# Altium schematic symbol library Kojiki.SCHLIB: 47 symbols
Pins are listed as number, name and electrical type; pins without a type are passive.

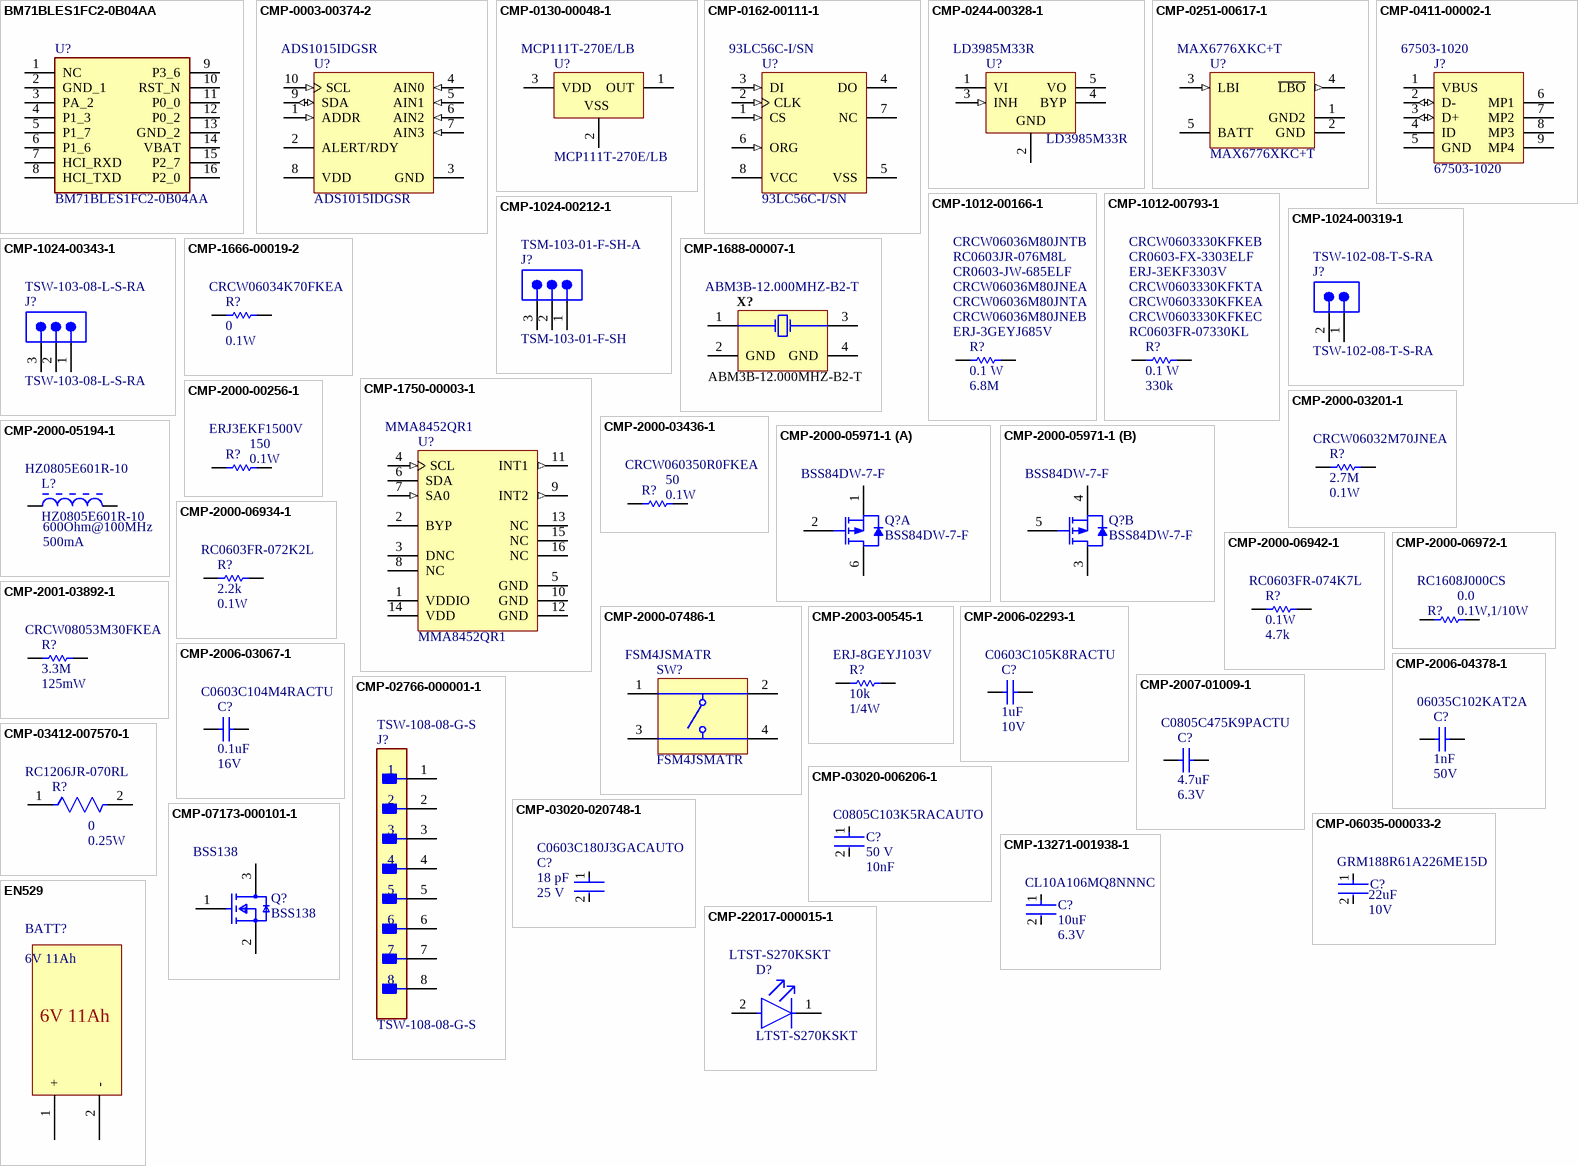
[diagram p0: symbols BM71BLES1FC2-0B04AA to EN529]

## BM71BLES1FC2-0B04AA
designator U?
Integrated Circuit; Manufacturer_Name: Microchip; Datasheet Link: http://www.microchip.com/mymicrochip/filehandler.aspx?ddocname=en578477; Manufacturer_Part_Number: BM71BLES1FC2-0B04AA; Arrow Part Number: BM71BLES1FC2-0B04AA; Arrow Price/Stock: https://www.arrow.com/en/products/bm71bles1fc2-0b04aa/microchip-technology; Mouser Part Number: 579-BM71BS1FC2-BB04; Mouser Price/Stock: https://www.mouser.co.uk/ProductDetail/Microchip-Technology/BM71BLES1FC2-0B04AA?qs=w%2Fv1CP2dgqqgFQsF1zIUBg%3D%3D
footprint BM71BLES1FC2_1
pins: 1 NC, 2 GND_1, 3 PA_2, 4 P1_3, 5 P1_7, 6 P1_6, 7 HCI_RXD, 8 HCI_TXD, 9 P3_6, 10 RST_N, 11 P0_0, 12 P0_2, 13 GND_2, 14 VBAT, 15 P2_7, 16 P2_0

## CMP-0003-00374-2
designator U?, comment ADS1015IDGSR
12-Bit ADC with Integrated Multiplexer, PGA, Comparator, Oscillator, and Reference, -40 to 125 degC, 10-pin SOP (DGS10), Green (RoHS & no Sb/Br); Manufacturer: Texas Instruments; # Input Channels: 4; Digital Supply(Max)(V): 5.5; Resolution(Bits): 12; Digital Supply(Min)(V): 2; Architecture: Delta-Sigma; Sample Rate (max)(SPS): 3.3k; SubFamily: Precision ADC (<=10MSPS); INL(Max)(+/-LSB): 0.5; Interface: Serial I2C; ComponentLink1Description: Manufacturer URL; PartNumber: ADS1015IDGSR; PackageDescription: 10-Pin Plastic Small Outline, Body 3 x 3 mm, Pitch 0.5 mm; PackageVersion: 4073272/C, 02/2004; ComponentLink3URL: http://www.ti.com/lit/ml/mpds035b/mpds035b.pdf; Eco-Plan: Green (RoHS & no Sb/Br); ComponentLink2URL: http://www.ti.com/general/docs/lit/getliterature.tsp?genericPartNumber=ADS1015&fileType=pdf; Mounting Technology: Surface Mount; ComponentLink1URL: http://www.ti.com/; DatasheetVersion: SBAS473C; Analog Voltage AV/DD(Min)(V): 2; ComponentLink2Description: Datasheet; Code_JEDEC: MO-153; Analog Voltage AV/DD(Max)(V): 5.5; PackageReference: DGS10; ComponentLink3Description: Package Specification; Manufacturer Part Number: ADS1015IDGSR
footprint TI-DGS10_N (SOP, 10-Leads, Body 3x3mm, Pitch 0.5mm, IPC Medium Density)
footprint TI-DGS10_L (SOP, 10-Leads, Body 3x3mm, Pitch 0.5mm, IPC High Density)
footprint TI-DGS10_M (SOP, 10-Leads, Body 3x3mm, Pitch 0.5mm, IPC Low Density)
pins: 1 ADDR (in) "I2C slave address select", 2 ALERT/RDY (oc) "Digital comparator output or conversion ready", 3 GND (power) "Ground", 4 AIN0 (in) "Differential channel 1: Positive input or single-ended channel 1 input", 5 AIN1 (in) "Differential channel 1: Negative input or single-ended channel 2 input", 6 AIN2 (in) "Differential channel 2: Positive input or single-ended channel 3 input", 7 AIN3 (in) "Differential channel 2: Negative input or single-ended channel 4 input", 8 VDD (power) "Power supply: 2.0V to 5.5V", 9 SDA (io) "Serial data: Transmits and receives data", 10 SCL (in) "Serial clock input: Clocks data on SDA"

## CMP-0130-00048-1
designator U?, comment MCP111T-270E/LB
1.75Î¼A Micropower Voltage Detector, Open-Drain Output, 2.63V, 3-Pin SC-70, Extended Temperature, Tape and Reel; Manufacturer: Microchip; PackageVersion: revBB, Aug-2009; PackageReference: SC70-LB3; DatasheetVersion: revD, Jun-2005; PackageDescription: 3-Lead Plastic Small Outline Transistor (LB) [SC70]; Manufacturer Part Number: MCP111T-270E/LB
footprint SC70-LB3_N (SOT323, 3-Leads, Body 2.0x1.3mm, Pitch 0.65mm, Lead Span 2.1mm, IPC Medium Density)
footprint SC70-LB3_M (SOT323, 3-Leads, Body 2.0x1.3mm, Pitch 0.65mm, Lead Span 2.1mm, IPC Low Density)
footprint SC70-LB3_L (SOT323, 3-Leads, Body 2.0x1.3mm, Pitch 0.65mm, Lead Span 2.1mm, IPC High Density)
pins: 1 OUT (power), 2 VSS (power), 3 VDD (power)

## CMP-0162-00111-1
designator U?, comment 93LC56C-I/SN
2K, 256x8 or 128x16-bit, 2.5V Microwire Serial EEPROM, 8-Pin SOIC 150mil, Industrial Temperature; Manufacturer: Microchip; ComponentAvailability: Unknown. Contact manufacturer to determine status.; PackageReference: SOIC-SN8; PackageVersion: revBB, Aug-2009; Code_IPC: SOIC127P600-8; PackageDescription: 8-Lead Plastic Small Outline (SN) - Narrow, 3.90mm Body [SOIC]; DatasheetVersion: revF, May-2008; Code_JEDEC: MS-012; Manufacturer Part Number: 93LC56C-I/SN
footprint SOIC-SN8_L (SOIC, 8-Leads, Body 4.9x3.8mm, Pitch 1.27mm, IPC High Density)
footprint SOIC-SN8_N (SOIC, 8-Leads, Body 4.9x3.8mm, Pitch 1.27mm, IPC Medium Density)
footprint SOIC-SN8_M (SOIC, 8-Leads, Body 4.9x3.8mm, Pitch 1.27mm, IPC Low Density)
pins: 1 CS (in), 2 CLK (in), 3 DI (in), 4 DO (hiz), 5 VSS (power), 6 ORG (in), 7 NC, 8 VCC (power)

## CMP-0244-00328-1
designator U?, comment LD3985M33R
150mA, Ultra-Low Drop Low Noise BiCMOS Voltage Regulators Low ESR Capacitors Compatible, 3.3V, 5-Pin SOT23-5L; Manufacturer: STMicroelectronics; ComponentLink1Description: Manufacturer URL; ComponentLink2URL: http://www.st.com/internet/com/TECHNICAL_RESOURCES/TECHNICAL_LITERATURE/DATASHEET/CD00003395.pdf; PackageReference: SOT23-5L; ComponentLink1URL: http://www.st.com; ComponentLink2Description: Datasheet; PackageVersion: 1/01/2008; PackageDescription: 5-Pin SOT-23 Package, 2.9 x 1.6 mm Body, 0.95 mm Pitch, 2.8 mm Lead Span; DatasheetVersion: 3/01/2011; Manufacturer Part Number: LD3985M33R
footprint SOT23-5L_N (SOT23, 5-Leads, Body 2.9x1.6mm, Pitch 0.95mm, Lead Span 2.8mm, IPC Medium Density)
footprint SOT23-5L_M (SOT23, 5-Leads, Body 2.9x1.6mm, Pitch 0.95mm, Lead Span 2.8mm, IPC Low Density)
footprint SOT23-5L_L (SOT23, 5-Leads, Body 2.9x1.6mm, Pitch 0.95mm, Lead Span 2.8mm, IPC High Density)
pins: 1 VI (power), 2 GND (power), 3 INH (in), 4 BYP, 5 VO (power)

## CMP-0251-00617-1
designator U?, comment MAX6776XKC+T
Low-Power, 1%-Accurate Battery Monitor, Single LBO output, Open-Drain output, Fixed hysteresis, 5-Pin SC70, -40°C to +85°C, Pb-Free, Tape and Reel; Manufacturer: Maxim; PackageVersion: revE, 2006; PackageDescription: 5-Pin SC70 Transistor Package, 0.65 mm Pitch, 2.2 mm Lead Span; ComponentLink1URL: http://www.maxim-ic.com; ComponentLink2URL: http://datasheets.maxim-ic.com/en/ds/MAX6775-MAX6781.pdf; ComponentLink2Description: Datasheet; ComponentLink3URL: http://pdfserv.maxim-ic.com/package_dwgs/21-0076.PDF; ComponentLink1Description: Manufacturer URL; ComponentLink3Description: Package Specification; PackageReference: X5+1; DatasheetVersion: Rev 4, May-2009; Code_JEDEC: MO-203; Manufacturer Part Number: MAX6776XKC+T
footprint X5+1_N (SOT353, 5-Leads, Body 2x1.3mm, Pitch 0.65mm, Lead Span 2.1mm, IPC Medium Density)
footprint X5+1_M (SOT353, 5-Leads, Body 2x1.3mm, Pitch 0.65mm, Lead Span 2.1mm, IPC Low Density)
footprint X5+1_L (SOT353, 5-Leads, Body 2x1.3mm, Pitch 0.65mm, Lead Span 2.1mm, IPC High Density)
pins: 1 GND2 (power), 2 GND (power), 3 LBI (in), 4 ~{LBO} (out), 5 BATT (power)

## CMP-0411-00002-1
designator J?, comment 67503-1020
USB, MINI, SMD, RA KME04-USBMU03A01; Manufacturer: Molex; ComponentLink1URL: http://www.molex.com/; Part Number: 67503-1020; Mounting Technology: Surface Mount; ComponentLink1Description: Manufacturer URL; Terminal Pitch: 0.8 mm; DatasheetVersion: Rev F, 06/2009; ComponentLink2Description: Datasheet; PackageDescription: Mini USB Connector, SMT, Righer Angle; ComponentLink2URL: http://www.molex.com/pdm_docs/sd/675031020_sd.pdf; PackageReference: 67503-1020; Manufacturer Part Number: 67503-1020
footprint MOLX-67503-1020_V (Mini USB Connector, SMT, Righer Angle)
pins: 1 VBUS (power), 2 D- (io), 3 D+ (io), 4 ID, 5 GND (power), 6 MP1, 7 MP2, 8 MP3, 9 MP4

## CMP-1012-00166-1
designator R?, comment value 6.8M  Power: 0.1 W  Manufacturer Part Number: ERJ-3GEYJ685V  Manufacturer Part Number: CRCW06036M80JNEB  Manufacturer Part Number: CRCW06036M80JNTA  Manufacturer Part Number: CRCW06036M80JNEA  Manufacturer Part Number: CR0603-JW-685ELF  Manufacturer Part Number: RC0603JR-076M8L  Manufacturer Part Number: CRCW06036M80JNTB  (hidden comment: 6M8 5% 0603(1608))
6M8 0.1W 5% 0603 (1608 Metric)  SMD; Manufacturer: Panasonic; Manufacturer: Vishay; Manufacturer: Vishay Dale; Manufacturer: Bourns; Manufacturer: Yageo; Alternative2: RMCF0603JT6M80 Stackpole Electronics; Alternative3: CRCW06036M80JNEA Vishay Dale; Package / Case: 0603; Tolerance: 5 %; Part Number: ERJ-3GEYJ685V; Alternative1: CR0603-JW-685ELF
footprint RESC0603(1608)_L (Chip Resistor, Body 1.6x0.8mm, IPC High Density)
footprint RESC0603(1608)_N (Chip Resistor, Body 1.6x0.8mm, IPC Medium Density)
footprint RESC0603(1608)_M (Chip Resistor, Body 1.6x0.8mm, IPC Low Density)
pins: 1, 2
1 alternate drawing of the same symbol

## CMP-1012-00793-1
designator R?, comment value 330k  Power: 0.1 W  Manufacturer Part Number: RC0603FR-07330KL  Manufacturer Part Number: CRCW0603330KFKEC  Manufacturer Part Number: CRCW0603330KFKEA  Manufacturer Part Number: CRCW0603330KFKTA  Manufacturer Part Number: ERJ-3EKF3303V  Manufacturer Part Number: CR0603-FX-3303ELF  Manufacturer Part Number: CRCW0603330KFKEB  (hidden comment: 330K 1% 0603(1608))
330K 0.1W 1% 0603 (1608 Metric)  SMD; Manufacturer: Yageo; Manufacturer: Vishay; Manufacturer: Vishay Dale; Manufacturer: Panasonic; Manufacturer: Bourns; Manufacturer: Vishay Intertechnology; Case-EIA: 0603; Case-Metric: 1608; Technology: SMT; Tolerance: 1 %
footprint RESC0603(1608)_M (Chip Resistor, Body 1.6x0.8mm, IPC Low Density)
footprint RESC0603(1608)_N (Chip Resistor, Body 1.6x0.8mm, IPC Medium Density)
footprint RESC0603(1608)_L (Chip Resistor, Body 1.6x0.8mm, IPC High Density)
pins: 1, 2
1 alternate drawing of the same symbol

## CMP-1024-00212-1
designator J?, comment Manufacturer Part Number: TSM-103-01-F-SH-A  (hidden comment: TSM-103-01-F-SH)
0.025" SQ Post Header, Surface Mount, Horizontal, -55 to 125 degC, 2.54 mm Pitch, 3-Pin, Male, RoHS; Manufacturer: Samtec; Pitch: 2.54 mm; ComponentLink1Description: Manufacturer URL; Temperature Range: -55 to 125 degC; Part Number: TSM-103-01-F-SH; Orientation: Horizontal; ComponentLink1URL: http://www.samtec.com; ComponentLink2Description: Datasheet; Mounting Technology: Surface Mount; RoHS: True; ComponentLink3URL: http://www.samtec.com/documents/webfiles/cpdf/TSM-1XX-XX-XXX-SH-XX-XXX-XX-MKT1.pdf; ComponentLink3Description: Package Specification; ComponentLink2URL: http://www.samtec.com/documents/webfiles/pdf/TSM.PDF
footprint SMTC-TSM-103-01-X-SH-A (Terminal Strip Single Surface Mount, 1x3 Pins, Horizontal, 2.54mm Pitch, Male)
pins: 1, 2, 3

## CMP-1024-00319-1
designator J?, comment TSW-102-08-T-S-RA
0.025" SQ Post Header, Through-hole, Right Angle, -55 to 105 degC, 2.54 mm Pitch, 2-Pin, Male, RoHS; Manufacturer: Samtec; Pitch: 2.54 mm; ComponentLink1Description: Manufacturer URL; ComponentLink1URL: http://www.samtec.com; ComponentLink2Description: Datasheet; ComponentLink2URL: http://www.samtec.com/documents/webfiles/pdf/TSW_TH.PDF; Mounting Technology: Through-hole; Temperature Range: -55 to 105 degC; PackageDescription: .025[0.64] SQ. Post Terminal Strip Assembly; PackageVersion: DM, 8/1988; PartNumber: TSW-102-08-T-S-RA; Orientation: Right Angle; ComponentLink3URL: http://www.samtec.com/documents/webfiles/cpdf/TSW-XXX-XX-XXX-X-XX-XXX-MKT.pdf; RoHS: True; ComponentLink3Description: Package Specification; DatasheetVersion: F-214; PackageReference: TSW-102-08-X-S-RA; Manufacturer Part Number: TSW-102-08-T-S-RA
footprint SMTC-TSW-102-08-X-S-RA (.025 SQ Post Terminal Strip Assembly, 1x2 Pins, Right Angle, 2.54mm Pitch, Male)
pins: 1, 2

## CMP-1024-00343-1
designator J?, comment TSW-103-08-L-S-RA
0.025" SQ Post Header, Through-hole, Right Angle, -55 to 125 degC, 2.54 mm Pitch, 3-Pin, Male, RoHS; Manufacturer: Samtec; Pitch: 2.54 mm; ComponentLink2Description: Datasheet; Temperature Range: -55 to 125 degC; ComponentLink1Description: Manufacturer URL; Mounting Technology: Through-hole; ComponentLink3URL: http://www.samtec.com/documents/webfiles/cpdf/TSW-XXX-XX-XXX-X-XX-XXX-MKT.pdf; DatasheetVersion: F-214; PackageDescription: .025[0.64] SQ. Post Terminal Strip Assembly; PackageVersion: DM, 8/1988; Orientation: Right Angle; PackageReference: TSW-103-08-X-S-RA; ComponentLink1URL: http://www.samtec.com; ComponentLink3Description: Package Specification; PartNumber: TSW-103-08-L-S-RA; RoHS: True; ComponentLink2URL: http://www.samtec.com/documents/webfiles/pdf/TSW_TH.PDF; Manufacturer Part Number: TSW-103-08-L-S-RA
footprint SMTC-TSW-103-08-X-S-RA (.025 SQ Post Terminal Strip Assembly, 1x3 Pins, Right Angle, 2.54mm Pitch, Male)
pins: 1, 2, 3

## CMP-1666-00019-2
designator R?, comment value 0  Power: 0.1W  (hidden comment: CRCW06034K70FKEA)
Chip Resistor, 4.7 KOhm, +/- 1%, 100 mW, -55 to 155 degC, 0603 (1608 Metric), RoHS, Tape and Reel; Manufacturer: Vishay; Alternative 1: RC0603FR-134K7L Yageo; Alternative 2: WR06X4701FGL Walsin Technologies; Alternative 3: CRCW06031R50FNEA Vishay Dale; ComponentLink1Description: Manufacturer URL; RoHSCompliant: true; ComponentLink2URL: http://www.vishay.com/docs/20035/dcrcwe3.pdf; Package / Case: 0603; ComponentLink2Description: Datasheet; ComponentLink1URL: http://www.vishay.com/; Part Number: CRCW06034K70FKEA; Manufacturer Part Number: CRCW06034K70FKEA
footprint RESC1609X50X30LL8T20 (Chip Resistor, 2-Leads, Body 1.65x0.95mm, IPC High Density)
footprint RESC1609X50X30NL8T20 (Chip Resistor, 2-Leads, Body 1.65x0.95mm, IPC Medium Density)
footprint RESC1609X50X30ML8T20 (Chip Resistor, 2-Leads, Body 1.65x0.95mm, IPC Low Density)
pins: 1, 2

## CMP-1688-00007-1
designator X?, comment ABM3B-12.000MHZ-B2-T
Ceramic SMD Crystal, 12 MHz, +/- 20 ppm, 70 Ohm, -20 to 70 degC, 4-Pin SMD, RoHS, Tape and Reel; Manufacturer: Abracon; Max Input Voltage: 25 V; Dropout Voltage: 2 V; Max Ouput Current: 1.5 A; Nominal Output Voltage: 5 V; Min Input Voltage: 7 V; Package / Case: TO-263-4; Mount: Surface Mount; ComponentLink2Description: Datasheet; DatasheetVersion: Aug-15; PackageReference: ABM3B; Radiation Hardening: No; Weight: 0.050897 oz; ComponentLink1URL: http://www.abracon.com/; RoHSCompliant: true; Max Operating Temperature: 125 degC; PackageDescription: 4-Pin Surface Mount Device, Body 5 x 3.2 mm; ComponentLink1Description: Manufacturer URL; Package Quantity: 500; Output Voltage: 5 V; ComponentLink2URL: http://www.abracon.com/Resonators/abm3b.pdf; Min Operating Temperature: 0 degC; Output Current: 1.5 A; Packaging: Tape and Reel; Pins: 3; REACH SVHC: No SVHC; Part Number: ABM3B-12.000MHZ-B2-T; Manufacturer Part Number: ABM3B-12.000MHZ-B2-T
footprint ABRA-ABM3B-4_V (SMD, 4-Leads, Body 5x3.2mm)
pins: 1 X1, 2 GND (power), 3 X2, 4 GND (power)

## CMP-1750-00003-1
designator U?, comment MMA8452QR1
3-Axis, 12-Bit / 8-Bit Digital Acceleromete, 1.95 to 3.6 V, -40 to 85 degC, 16-Pin QFN, RoHS, Tape and Reel; Manufacturer: NXP Freescale; Elements: 1; Nominal Vgs: -3.5 V; Typical Rise Time: 8 ns; Nominal Dual Supply Voltage: -60 V; Rds On Max: 14 Ohm; Input Capacitance: 50 pF; Case\Package: TO-226-3; Max Power Dissipation: 625 mW; ComponentLink1URL: http://www.nxp.com/; ComponentLink2URL: http://cache.nxp.com/files/sensors/doc/data_sheet/MMA8452Q.pdf; ComponentLink2Description: Datasheet; Length: 4.77 mm; ComponentLink1Description: Manufacturer URL; Mount: Through Hole; REACH SVHC: No SVHC; Packaging: Bulk; PackageReference: QFN-16; Max Operating Temperature: 150 degC; Min Operating Temperature: -55 degC; Height: 4.01 mm; Pins: 3; Radiation Hardening: No; Weight: 0.016 oz; RoHSCompliant: true; Width: 2.41 mm; Package Quantity: 4000; PackageDescription: 16-Pin Quad Flat No-lead Package, Body 3 x 3 mm , Pitch 0.5 mm; DatasheetVersion: Rev. 10, 04/2016; Manufacturer Part Number: MMA8452QR1
footprint FREE-QFN-16_V (QFN, 16-Leads, Body 3x3mm, Pitch 0.5mm)
pins: 1 VDDIO (power) "Internal power supply (1.62 V to 3.6 V)", 2 BYP "Bypass capacitor (0.1 uF)", 3 DNC "Do not connect to anything, leave pin isolated and floating.", 4 SCL (in) "I2C serial clock, open drain", 5 GND (power) "Connect to ground", 6 SDA "I2C serial data", 7 SA0 (in) "I2C least significant bit of the device I2C address, I2C 7-bit address = 0x1C (SA0 = 0), 0x1D (SA0 = 1).", 8 NC "Internally not connected", 9 INT2 (out) "Inertial interrupt 2, output pin", 10 GND (power) "Connect to ground", 11 INT1 (out) "Inertial interrupt 1, output pin", 12 GND (power) "Connect to ground", 13 NC "Internally not connected", 14 VDD (power) "Power supply (1.95 V to 3.6 V)", 15 NC "Internally not connected", 16 NC "Internally not connected (can be GND or VDD)"

## CMP-2000-00256-1
designator R?, comment value 150  Power: 0.1W  Manufacturer Part Number: ERJ3EKF1500V  (hidden comment: ERJ-3EKF1500V)
Manufacturer: Panasonic; Part Number: ERJ-3EKF1500V
footprint RESC1608X55X30NL15T15 (Chip Resistor, 2-Leads, Body 1.60x0.80mm, IPC Medium Density)
footprint RESC1608X55X30ML15T15 (Chip Resistor, 2-Leads, Body 1.60x0.80mm, IPC Low Density)
footprint RESC1608X55X30LL15T15 (Chip Resistor, 2-Leads, Body 1.60x0.80mm, IPC High Density)
pins: 1, 2
1 alternate drawing of the same symbol

## CMP-2000-03201-1
designator R?, comment value 2.7M  Power: 0.1W  (hidden comment: CRCW06032M70JNEA)
Manufacturer: Vishay Dale; Part Number: CRCW06032M70JNEA; Manufacturer Part Number: CRCW06032M70JNEA
footprint RESC1609X50X30ML10T20 (Chip Resistor, 2-Leads, Body 1.55x0.85mm, IPC Low Density)
footprint RESC1609X50X30NL10T20 (Chip Resistor, 2-Leads, Body 1.55x0.85mm, IPC Medium Density)
footprint RESC1609X50X30LL10T20 (Chip Resistor, 2-Leads, Body 1.55x0.85mm, IPC High Density)
pins: 1, 2
1 alternate drawing of the same symbol

## CMP-2000-03436-1
designator R?, comment value 50  Power: 0.1W  (hidden comment: CRCW060350R0FKEA)
Manufacturer: Vishay Dale; Part Number: CRCW060350R0FKEA; Manufacturer Part Number: CRCW060350R0FKEA
footprint RESC1609X50X30NL10T20 (Chip Resistor, 2-Leads, Body 1.55x0.85mm, IPC Medium Density)
footprint RESC1609X50X30LL10T20 (Chip Resistor, 2-Leads, Body 1.55x0.85mm, IPC High Density)
footprint RESC1609X50X30ML10T20 (Chip Resistor, 2-Leads, Body 1.55x0.85mm, IPC Low Density)
pins: 1, 2
1 alternate drawing of the same symbol

## CMP-2000-05194-1
designator L?, comment HZ0805E601R-10  Impedance @ Frequency: 600Ohm@100MHz  Current Rating (Max): 500mA
Chip Bead for Signal Filtering, 600 Ohm, 500 mA, -40 to 125 degC, 0805 (2012 Metric), RoHS, Tape and Reel; Manufacturer: Laird; Other Names: 240-2399-1; Kits: 240-2227-ND-KITEMIFERRITEBEADCHIPSMD; DC Resistance (DCR) (Max): 300mOhm; Filter Type: SignalLine; Operating Temperature: -40degC~125degC; Datasheet URL: https://datasheet.ciiva.com/22622/1685710-22622833.pdf; Mounting Type: SurfaceMount; Package / Case: 0805(2012Metric); Package Description: 2-Pin Surface Mount Device, Body 2 x 1.25 mm; Package Reference: LI0805H15R-10-2; Size / Dimension: 0.079"Lx0.049"W(2.00mmx1.25mm); Height (Max): 0.043"(1.10mm); Part Number: HZ0805E601R-10; Manufacturer Part Number: HZ0805E601R-10
footprint LIRD-LI0805H151R-10-2_V (Chip, 2-Leads, Body 2.2x1.45mm)
pins: 1, 2

## CMP-2000-05971-1
designator Q?, comment BSS84DW-7-F
Dual P-Channel Enhancement Mode MOSFET, 50 VDS, -55 to 150 degC, 6-Pin SOT363, RoHS, Tape and Reel; Manufacturer: DiodesIncorporated; Manufacturer: Diodes; Vgs - Gate-Source Voltage: 20V; Typical Turn-On Delay Time: 10ns; Forward Transconductance - Min: 0.05S; Id - Continuous Drain Current: -130mA; Transistor Type: 2P-Channel; Typical Turn-Off Delay Time: 18ns; Unit Weight: 0.000212oz; Vds - Drain-Source Breakdown Voltage: -50V; Number of Channels: 2Channel; Pd - Power Dissipation: 300mW; Type: EnhancementModeFieldEffectTransistor; Rds On - Drain-Source Resistance: 6Ohms; Package Description: 6-Pin Small Outline Transistor, Body 1.25 x 2 mm, Pitch 0.65 mm; RoHS: True; Manufacturer URL: http://www.diodes.com/; Packaging: Reel; Series: BSS84; Mounting Style: SMD/SMT; Technology: Si; Height: 1mm; Configuration: Dual; Package Reference: SOT363-6; Length: 2.2mm; Mounting Technology: SurfaceMount; Factory Pack Quantity: 3000; Brand: DiodesIncorporated; Maximum Operating Temperature: +150C; Minimum Operating Temperature: -55C; Product Category: MOSFET; Datasheet URL: http://www.diodes.com/_files/datasheets/ds30204.pdf; Width: 1.35mm; Product: MOSFETSmallSignal; Channel Mode: Enhancement; Transistor Polarity: P-Channel; Datasheet Version: Rev. 18-2, 01/2014; Package / Case: SOT-363-6; Manufacturer Part Number: BSS84DW-7-F
footprint DIOD-SOT363-6_V (SOT23, 6-Leads, Body 1.35x2.20mm, Pitch 0.65mm)
part A pins: 1 S, 2 G, 6 D
part B pins: 3 D, 4 S, 5 G

## CMP-2000-06934-1
designator R?, comment value 2.2k  Power: 0.1W  (hidden comment: RC0603FR-072K2L)
Thick Film Resistor, 2.2 KOhm, 100 mW, 50 V, +/- 1%, -55 to 155 degC, 2-Pin SMD (0603), RoHS, Tape and Reel; Manufacturer: Yageo; Temperature Coefficient: 100PPM/C; Voltage: 50V; Alternative1: RC0603FR-102K2L Yageo; Alternative2: RMCF0603FT2K20 Stackpole Electronics; Alternative3: CRCW06032K20FKEA Vishay; Tolerance: 1%; Datasheet Version: Rev. 7, 05/2017; Case Code - mm: 1608; Series: RC; Mounting Technology: SurfaceMount; Package Description: 2-Pin Surface Mount Device, Body 1.6 x 0.8 mm; Package / Case: 0603; Package Reference: 0603; Product: ThickFilmResistorsGeneralPurpose; Manufacturer URL: http://www.yageo.com/; Termination Style: SMD/SMT; Operating Temperature Range: -55Cto+155C; Datasheet URL: http://www.yageo.com/documents/recent/PYu-RC_Group_51_RoHS_L_7.pdf; Packaging: Reel; Manufacturer Part Number: RC0603FR-072K2L
footprint RESC1608X55X25LL10T15 (Chip Resistor, 2-Leads, Body 1.60x0.80mm, IPC High Density)
footprint RESC1608X55X25ML10T15 (Chip Resistor, 2-Leads, Body 1.70x0.90mm, IPC Low Density)
footprint RESC1608X55X25NL10T15 (Chip Resistor, 2-Leads, Body 1.70x0.90mm, IPC Medium Density)
pins: 1, 2

## CMP-2000-06942-1
designator R?, comment value 4.7k  Power: 0.1W  (hidden comment: RC0603FR-074K7L)
Chip Resistor, 4.7 KOhm, +/- 1%, 0.1 W, -55 to 155 degC, 0603 (1608 Metric), RoHS, Tape and Reel; Manufacturer: Yageo; Temperature Coefficient: 100PPM/C; Voltage Rating: 50V; Package / Case: 0603; Series: RC; Datasheet URL: http://www.yageo.com/documents/recent/PYu-RC_Group_51_RoHS_L_7.pdf; Case Code - mm: 1608; Operating Temperature Range: -55Cto+155C; Tolerance: 1%; Manufacturer Part Number: RC0603FR-074K7L
footprint RESC1608X55X25LL10T15 (Chip Resistor, 2-Leads, Body 1.60x0.80mm, IPC High Density)
footprint RESC1608X55X25ML10T15 (Chip Resistor, 2-Leads, Body 1.70x0.90mm, IPC Low Density)
footprint RESC1608X55X25NL10T15 (Chip Resistor, 2-Leads, Body 1.70x0.90mm, IPC Medium Density)
pins: 1, 2

## CMP-2000-06972-1
designator R?, comment value 0.0  Power: 0.1W,1/10W  (hidden comment: RC1608J000CS)
Chip Resistor, 0 Ohm, +/- 5%, 0.1 W, -55 to 155 degC, 0603 (1608 Metric), RoHS, Tape and Reel; Manufacturer: Samsung-Electro-Mechanics-America,-Inc.; Manufacturer: Samsung; Tolerance: Jumper; Alternative1: RC0603JR-130RL Yageo; Alternative2: RC0603JR-100RL Yageo; Alternative3: CRCW0603-0000Z0EA Vishay; Manufacturer URL: http://www.samsungsem.com/global/index.jsp; Features: MoistureResistant; Mounting Technology: SurfaceMount; Series: RC; Package / Case: 0603(1608Metric); Category: Resistors; Operating Temperature: -55°C~155°C; Datasheet URL: http://static6.arrow.com/aropdfconversion/3cece72dd289ffbadc164fbcd05f638dd7240f7b/rc_datasheet_150330.pdf.pdf?authToken=eyJ0eXAiOiJKV1QiLCJhbGciOiJIUzI1NiJ9.eyJTZXNzaW9uSWQiOiJtY3ZlYXdxYmptZXdpdXdyeG1ha2FxdWciLCJEb3dubG9hZFR5cGUiOiJEYXRhc2hlZXRzIiwiaXNzIjoic2VsZiIsImF1ZCI6Imh0dHA6Ly9kYXRhc2hlZXRhdXRoLmFycm93LmNvbSIsImV4cCI6MTQ3Njg1OTQ5NiwibmJmIjoxNDc2ODU5Mzc2fQ.1rZWSrRNyHkP6J5YmszFzS2kzmlbN9BKNvWJ4ACiP-Q; Datasheet Version: 09/2015; Composition: ThickFilm; Package Description: 2-Pin Chip Resistor, Body 1.6 x 0.8 mm; Height: 0.022"(0.55mm); Family: ChipResistor-SurfaceMount; Temperature Coefficient: -; Size / Dimension: 0.063"Lx0.031"W(1.60mmx0.80mm); Part Number: RC1608J000CS; Manufacturer Part Number: RC1608J000CS
footprint RESC1608X55X35LL10T10 (Chip Resistor, 2-Leads, Body 1.7x0.9mm, IPC High Density)
footprint RESC1608X55X35ML10T10 (Chip Resistor, 2-Leads, Body 1.7x0.9mm, IPC Low Density)
footprint RESC1608X55X35NL10T10 (Chip Resistor, 2-Leads, Body 1.7x0.9mm, IPC Medium Density)
pins: 1, 2

## CMP-2000-07486-1
designator SW?, comment FSM4JSMATR
Micro Miniature Push Button Switch FSM JSM, 50 mA, -35 to 85 degC, 4-Pin SMD, RoHS, Tape and Reel; Manufacturer: TE Connectivity; Manufacturer: TE Connectivity Alcoswitch; Mechanical Life: 100000Cycles; Current Rating: 50mA; Actuator Material: Polyamide; Max Voltage Rating (DC): 12V; Capacitance: 0f; Illumination Type: Illuminated; Voltage Rating (DC): 24V; Case\/Package: SMD/SMT; Operating Force: 160gf; Contact Resistance: 100mOhm; Actuator Length: 0.055inch; Switch Travel: 0.25mm; Throw Configuration: SPST; Termination: GullWing; Contact Plating: Silver; Orientation: Straight; Mounting Technology: SurfaceMount; REACH SVHC: Unknown; Electrical Life: 100000Cycles; Package Reference: FSM4JSMATR; Max Operating Temperature: 85degC; Manufacturer URL: http://www.te.com/; Package Description: 4-Pin Surface Mount Device, Body 6 x 6 mm, Pitch 4.5 mm; Datasheet Version: Rev. V, 02/2015; Packaging: TapeandReel; Min Operating Temperature: -35degC; Mount: SurfaceMount; Contact Current Rating: 50mA; Contact Material: CopperAlloy; Package Quantity: 1200; Datasheet URL: http://www.te.com/commerce/DocumentDelivery/DDEController?Action=showdoc&DocId=Customer+Drawing%7F2-1437565-7%7FV%7Fpdf%7FEnglish%7FENG_CD_2-1437565-7_V.pdf%7F4-1437565-2; RoHSCompliant: true; Manufacturer Part Number: FSM4JSMATR
footprint TECO-FSM4JSMATR_V (SMD, 4-Leads, Body 6x6mm, Pitch 4.5mm)
pins: 1, 2, 3, 4

## CMP-2001-03892-1
designator R?, comment value 3.3M  Power: 125mW  (hidden comment: CRCW08053M30FKEA)
Manufacturer: Vishay Dale; Manufacturer: Vishay; Alternative1: CRCW08050000Z0EA Vishay; Alternative2: CRCW080512K0FKEA Vishay; Alternative3: CRCW08054K70FKEA Vishay; Part Number: CRCW08053M30FKEA; Package / Case: 0805; Manufacturer Part Number: CRCW08053M30FKEA
footprint RESC2013X50X30LL20T20 (Chip Resistor, 2-Leads, Body 2.00x1.25mm, IPC High Density)
footprint RESC2013X50X30NL20T20 (Chip Resistor, 2-Leads, Body 2.00x1.25mm, IPC Medium Density)
footprint RESC2013X50X30ML20T20 (Chip Resistor, 2-Leads, Body 2.00x1.25mm, IPC Low Density)
pins: 1, 2
1 alternate drawing of the same symbol

## CMP-2003-00545-1
designator R?, comment value 10k  Power: 1/4W  (hidden comment: ERJ-8GEYJ103V)
Res Thick Film 1206 10k Ohms 5% 1/4W; Manufacturer: Panasonic; Alternative1: CR1206F-10KFI TT Welwyn; Alternative2: WR12X1002FGL Walsin Technologies; Alternative3: CR1206-FX-1002ELF Bourns; Part Number: ERJ-8GEYJ103V; Package / Case: 1206; Manufacturer Part Number: ERJ-8GEYJ103V
footprint RESC3216X70X50NL05T20 (Chip Resistor, 2-Leads, Body 3.20x1.60mm, IPC Medium Density)
footprint RESC3216X70X50LL05T20 (Chip Resistor, 2-Leads, Body 3.20x1.60mm, IPC High Density)
pins: 1, 2
1 alternate drawing of the same symbol

## CMP-2006-02293-1
designator C?, comment value 1uF  Voltage: 10V  (hidden comment: C0603C105K8RACTU)
Manufacturer: Kemet; Alternative1: CL10B105KO8NNND Samsung; Alternative2: CC0603KPX7R7BB105 Yageo; Alternative3: GRM188R71C105KE15D Murata; Part Number: C0603C105K8RACTU; Package / Case: 0603; Manufacturer: KEMET; Manufacturer Part Number: C0603C105K8RACTU
footprint CAPC1608X90X35ML15T15 (Chip Capacitor, 2-Leads, Body 1.60x0.81mm, IPC Low Density)
footprint CAPC1608X90X35NL15T15 (Chip Capacitor, 2-Leads, Body 1.60x0.81mm, IPC Medium Density)
footprint CAPC1608X90X35LL15T15 (Chip Capacitor, 2-Leads, Body 1.60x0.81mm, IPC High Density)
pins: 1, 2
1 alternate drawing of the same symbol

## CMP-2006-03067-1
designator C?, comment value 0.1uF  Voltage: 16V  (hidden comment: C0603C104M4RACTU)
Ceramic Capacitor 0.1uF 16V +-10% X7R0603; Manufacturer: Kemet; Alternative1: C1608X7R1E104K TDK; Alternative2: CC0603KRX7R8BB104 Yageo; Alternative3: GRM188R72A104KA35D Murata; Part Number: C0603C104M4RACTU; Package / Case: 0603; Manufacturer: KEMET; Manufacturer Part Number: C0603C104M4RACTU
footprint CAPC1608X87X35ML15T15 (Chip Capacitor, 2-Leads, Body 1.60x0.80mm, IPC Low Density)
footprint CAPC1608X87X35LL15T15 (Chip Capacitor, 2-Leads, Body 1.60x0.80mm, IPC High Density)
footprint CAPC1608X87X35NL15T15 (Chip Capacitor, 2-Leads, Body 1.60x0.80mm, IPC Medium Density)
pins: 1, 2
1 alternate drawing of the same symbol

## CMP-2006-04378-1
designator C?, comment value 1nF  Voltage: 50V  (hidden comment: 06035C102KAT2A)
Manufacturer: AVX Interconnect / Elco; Manufacturer: Kyocera AVX; Part Number: 06035C102KAT2A; Manufacturer Part Number: 06035C102KAT2A
footprint CAPC1608X90X35LL15T15 (Chip Capacitor, 2-Leads, Body 1.60x0.81mm, IPC High Density)
footprint CAPC1608X90X35ML15T15 (Chip Capacitor, 2-Leads, Body 1.60x0.81mm, IPC Low Density)
footprint CAPC1608X90X35NL15T15 (Chip Capacitor, 2-Leads, Body 1.60x0.81mm, IPC Medium Density)
pins: 1, 2
1 alternate drawing of the same symbol

## CMP-2007-01009-1
designator C?, comment value 4.7uF  Voltage: 6.3V  (hidden comment: C0805C475K9PACTU)
Manufacturer: Kemet; Alternative1: GRM219R61A475KE34D Murata; Alternative2: C0805C475K3PACTU KEMET; Alternative3: CC0805KKX5R7BB475 Yageo; Part Number: C0805C475K9PACTU; Package / Case: 0805; Manufacturer: KEMET; Manufacturer Part Number: C0805C475K9PACTU
footprint CAPC2013X145X50NL20T25 (Chip Capacitor, 2-Leads, Body 2.00x1.25mm, IPC Medium Density)
footprint CAPC2013X145X50LL20T25 (Chip Capacitor, 2-Leads, Body 2.00x1.25mm, IPC High Density)
footprint CAPC2013X145X50ML20T25 (Chip Capacitor, 2-Leads, Body 2.00x1.25mm, IPC Low Density)
pins: 1, 2
1 alternate drawing of the same symbol

## CMP-02766-000001-1
designator J?, comment TSW-108-08-G-S
CONN HEADER VERT 8POS 2.54MM; Manufacturer: Samtec; Number Of Contacts: 8; Conn Orientation: Straight; Conn Gender: Male; Device Class L1: Connectors; ComponentLink2Description: Datasheet; Digikey Description: CONN HEADER VERT 8POS 2.54MM; ComponentLink2URL: http://suddendocs.samtec.com/catalog_english/tsw_th.pdf; Temperature: -55°C to +125°C; RoHS: TRUE; Mouser Description: TSW - Samtec 2.54mm Pin Header 13.46mm Overall Pin Length 5.08mm Tail; Automotive: No; Temperature Range High: +125°C; Package: TSW-108-08-G-S; Device Class L3: unset; Manufacturer Part Number: TSW-108-08-G-S; Pitch: 2.54mm; Number Of Rows: 1; Lead Free: Yes; Height: 8.71mm; Contact Material: Gold,Nickel; Footprint Url: http://suddendocs.samtec.com/prints/tsw-xxx-xx-x-x-xx-xxx-footprint.pdf; Temperature Range Low: -55°C; Octopart: https://octopart.com/tsw-108-08-g-s-samtec-272653; Category: Conn; Device Class L2: Headers and Wire Housings
footprint FP-TSW-108-08-G-S-MFG
pins: 1, 2, 3, 4, 5, 6, 7, 8

## CMP-03020-006206-1
designator C?, comment value 10nF  Voltage: 50 V  (hidden comment: C0805C103K5RACAUTO)
CAP CER 10000PF 50V X7R 0805; Manufacturer: KEMET; Material: Ceramic; Temperature Coefficient: 30ppm/°C; Alternative1: GRM21BR72A103KA01L Murata; Alternative2: C0805F103K5RACTU KEMET; Alternative3: 08055C103JAT2A Kyocera AVX; Height: 0.88mm; Temperature Characteristic: X7R; Part Number: C0805C103K5RACAUTO; ComponentLink2URL: https://content.kemet.com/datasheets/KEM_C1003_C0G_SMD.pdf; RoHS: TRUE; Temperature: -55°C to +125°C; Temperature Range Low: -55°C; ComponentLink2Description: Datasheet; Package / Case: C0805C-DN; Lead Free: Yes; Manufacturer Part Number: C0805C103K5RACAUTO
footprint FP-C0805C-DN-MFG
footprint FP-C0805C-DN-IPC_C
footprint FP-C0805C-DN-IPC_B
footprint FP-C0805C-DN-IPC_A
pins: 1, 2

## CMP-03020-020748-1
designator C?, comment value 18 pF  Voltage: 25 V  (hidden comment: C0603C180J3GACAUTO)
CAP CER 18PF 25V C0G/NP0 0603; Manufacturer: KEMET; Tolerance: 0.05; Temperature Characteristic: C0G; Material: Ceramic; Temperature Coefficient: 30ppm/°C; Automotive: Yes; Package / Case: C0603C-CF; Device Class L2: Capacitors; Part Number: C0603C180J3GACAUTO; ComponentLink2Description: Datasheet; Device Class L3: Ceramic Capacitors; Temperature Range Low: -55°C; Temperature Range High: +125°C; Lead Free: Yes; Digikey Description: CAP CER 18PF 25V C0G/NP0 0603; Temperature: -55°C to +125°C; Octopart: https://octopart.com/c0603c180j3gacauto-kemet-21982873; Height: 0.87mm; Capacitance: 18 pF; RoHS: TRUE; ComponentLink2URL: https://api.kemet.com/component-edge/download/datasheet/C0603C100J5GACAUTO.pdf; Manufacturer Part Number: C0603C180J3GACAUTO
footprint FP-C0603C-CF-MFG
footprint FP-C0603C-CF-IPC_C
footprint FP-C0603C-CF-IPC_B
footprint FP-C0603C-CF-IPC_A
pins: 1, 2

## CMP-03412-007570-1
designator R?, comment value 0  Power: 0.25W  (hidden comment: RC1206JR-070RL)
RES SMD 0 OHM JUMPER 1/4W 1206; Manufacturer: YAGEO; Voltage Rating: 200V; Temperature Coefficient: 300ppm/°C; Tolerance: 5%; Alternative1: RC1206JR-100R Yageo; Alternative2: ERJ8GEY0R00V Panasonic; Alternative3: CRCW12060000Z0EC Vishay Dale; Part Number: RC1206JR-070RL; Temperature: -55°C to +155°C; ComponentLink2URL: https://www.yageo.com/upload/media/product/productsearch/datasheet/rchip/PYu-RC_Group_51_RoHS_L_10.pdf; Lead Free: Yes; Height: 0.65mm; Package / Case: 1206; ComponentLink2Description: Datasheet; Composition: Thick Film; RoHS: TRUE; Manufacturer: Yageo; Manufacturer Part Number: RC1206JR-070RL
footprint FP-RC1206-MFG
footprint FP-RC1206-IPC_C
footprint FP-RC1206-IPC_B
footprint FP-RC1206-IPC_A
pins: 1, 2

## CMP-06035-000033-2
designator C?, comment value 22uF  Voltage: 10V  (hidden comment: GRM188R61A226ME15D)
Chip Multilayer Ceramic Capacitors for General Purpose, 0603, 22uF, X5R, 15%, 20%, 10V; Manufacturer: Murata; Alternative1: GRM21BR72A103KA01L Murata; Alternative2: C0805F103K5RACTU KEMET; Alternative3: 08055C103JAT2A Kyocera AVX; Tolerance: 20%; Material: Ceramic; Termination: SMD/SMT; Packaging: Tape and Reel; Width: 0.8mm; Case Code (Imperial): 0603; Mount: Surface Mount; Package / Case: 0603; Dielectric: X5R; Package Quantity: 4000; Case Code (Metric): 1608; Min Operating Temperature: -55°C; Lead Free: Lead Free; Max Operating Temperature: 85°C; Part Number: GRM188R61A226ME15D; Manufacturer Part Number: GRM188R61A226ME15D
footprint FP-GRM188-0_2-IPC_C
footprint FP-GRM188-0_2-IPC_A
footprint FP-GRM188-0_2-MFG
footprint FP-GRM188-0_2-IPC_B
pins: 1, 2

## CMP-07173-000101-1
designator Q?, comment BSS138
MOSFET N-CH 50V 220MA SOT-23; Manufacturer: ON Semiconductor / Fairchild; Turn-Off Delay Time: 20ns; Element Configuration: Single; Rds On Max: 3.5R; Gate to Source Voltage (Vgs): 20V; Threshold Voltage: 1.3V; Number of Elements: 1; Power Dissipation: 360mW; Rise Time: 9ns; Turn-On Delay Time: 2.5ns; Input Capacitance: 27pF; On-State Resistance: 6R; Alternative1: BSS138LT3G ON Semiconductor; Alternative2: BSS138W-7-F Diodes; Alternative3: 2N7002 STMicroelectronics; Lead Free: Lead Free; Length: 2.92mm; Width: 1.3mm; Drain to Source Breakdown Voltage: 50V; Min Operating Temperature: -55°C; REACH SVHC: No SVHC; Packaging: Tape and Reel; Radiation Hardening: No; Height: 0.93mm; Drain to Source Voltage (Vdss): 50V; Current Rating: 220mA; Voltage Rating (DC): 50V; Weight: 0.03g; Continuous Drain Current (ID): 220mA; Number of Pins: 3; Nominal Vgs: 1.3V; Max Power Dissipation: 360mW; Fall Time: 9ns; Drain to Source Resistance: 3.5R; Contact Plating: Tin; Case/Package: SOT-23; Package Quantity: 1; Dual Supply Voltage: 50V; Mount: Surface Mount; Termination: SMD/SMT; Max Operating Temperature: 150°C; Manufacturer Part Number: BSS138
footprint FP-318-08-IPC_B
footprint FP-318-08-MFG
footprint FP-318-08-IPC_A
footprint FP-318-08-IPC_C
pins: 1 G, 2 S, 3 D

## CMP-13271-001938-1
designator C?, comment value 10uF  Voltage: 6.3V  (hidden comment: CL10A106MQ8NNNC)
Cap Ceramic 10uF 6.3V X5R ±20% Pad SMD 0603 +85°C T/R; Manufacturer: Samsung; Alternative1: LMK107BJ106MALTD Taiyo Yuden; Alternative2: C1608X5R0J106K080AB TDK; Alternative3: 06036D106MAT2A Kyocera AVX; Height: 0.8mm; Width: 0.031inch; Min Operating Temperature: -55°C; Dielectric: X5R; Package / Case: 0603; Radiation Hardening: No; Packaging: Tape and Reel; Max Operating Temperature: 85°C; Thickness: 0.035inch; Mount: Surface Mount; Case Code (Imperial): 0603; Case Code (Metric): 1608; Depth: 0.8mm; Tolerance: 20%; Length: 1.6mm; Part Number: CL10A106MQ8NNNC; Manufacturer Part Number: CL10A106MQ8NNNC
footprint FP-CL10-IPC_C
footprint FP-CL10-IPC_B
footprint FP-CL10-IPC_A
pins: 1, 2

## CMP-22017-000015-1
designator D?, comment LTST-S270KSKT
LED YELLOW CLEAR CHIP SMD R/A; Manufacturer: Vishay Lite-On; Wavelength: 591nm; Lens Color: Colorless; Dominant Wavelength: 587nm; Reverse Voltage: 5V; Test Current: 20mA; Forward Current: 30mA; Power Dissipation: 75mW; Number of Elements: 1; Viewing Angle: 130°; Forward Voltage: 2V; Lens Style: Diffused; Luminous Intensity: 80mcd; Max Operating Temperature: 85°C; Lead Free: Lead Free; Case Code (Metric): 1608; Number of Pins: 2; Package Quantity: 1; Height: 0.6mm; Illumination Color: Yellow; Mount: Surface Mount; Case Code (Imperial): 0603; Length: 1.6mm; Packaging: Tape and Reel; Radiation Hardening: No; Width: 1.15mm; Depth: 0.6mm; Lens Transparency: Clear; Case/Package: 0603; Number of LEDs: 1; Power Rating: 75mW; Color: Yellow; Min Operating Temperature: -55°C; Manufacturer Part Number: LTST-S270KSKT
footprint FP-LTST-S270KSKT-MFG
pins: 1 C, 2 A

## EN529
designator BATT?, comment 6V 11Ah
Lantern Alkaline Manganese Dioxide 6V Battery Non-Rechargeable (Primary)
pins: 1 + (power), 2 - (power)

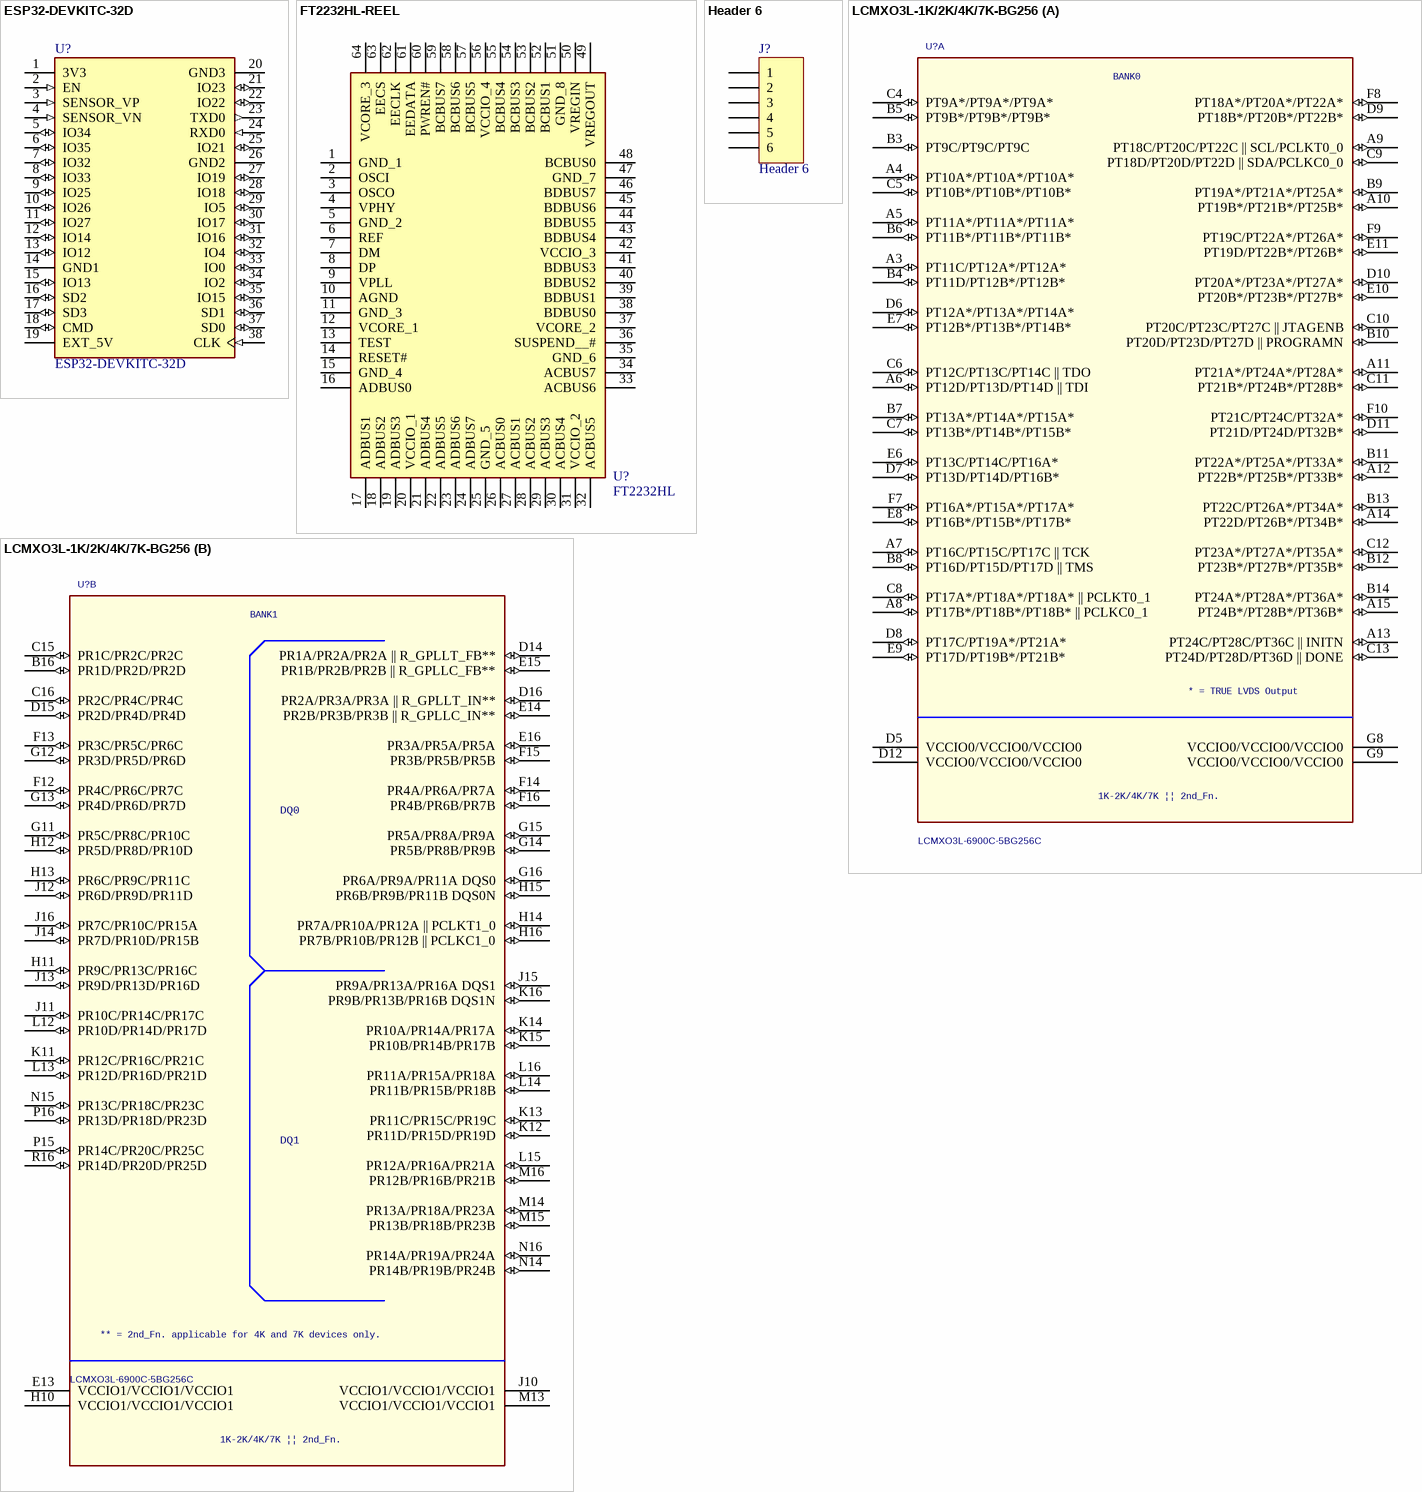
[diagram p1: symbols ESP32-DEVKITC-32D to LCMXO3L-1K/2K/4K/7K-BG256]

## ESP32-DEVKITC-32D
designator U?
- Transceiver; 802.11 b/g/n _Wi-Fi, WiFi, WLAN_, BluetoothÂ® Smart Ready 4.x Dual Mode For Use With ESP-WROOM-32; MF: Espressif Systems; Package: None; Price: None; Availability: Unavailable; MP: ESP32-DEVKITC-32D; SnapEDA_Link: https://www.snapeda.com/parts/ESP32-DEVKITC-32D/Espressif%20Systems/view-part/2777395/?ref=snap; Value: *
footprint MODULE_ESP32-DEVKITC-32D
pins: 1 3V3 (power), 2 EN (in), 3 SENSOR_VP (in), 4 SENSOR_VN (in), 5 IO34 (io), 6 IO35 (io), 7 IO32 (io), 8 IO33 (io), 9 IO25 (io), 10 IO26 (io), 11 IO27 (io), 12 IO14 (io), 13 IO12 (io), 14 GND1 (power), 15 IO13 (io), 16 SD2 (io), 17 SD3 (io), 18 CMD (io), 19 EXT_5V (power), 20 GND3 (power), 21 IO23 (io), 22 IO22 (io), 23 TXD0 (out), 24 RXD0 (in), 25 IO21 (io), 26 GND2 (power), 27 IO19 (io), 28 IO18 (io), 29 IO5 (io), 30 IO17 (io), 31 IO16 (io), 32 IO4 (io), 33 IO0 (io), 34 IO2 (io), 35 IO15 (io), 36 SD1 (io), 37 SD0 (io), 38 CLK (in)

## FT2232HL-REEL
designator U?, comment FT2232HL
Integrated Circuit; Manufacturer: FTDI Chip; Datasheet Link: http://www.ftdichip.com/Support/Documents/DataSheets/ICs/DS_FT2232H.pdf; Height: 1.6mm; Part Number: FT2232HL; Arrow Part Number: FT2232HL-REEL; Arrow Price/Stock: https://www.arrow.com/en/products/ft2232hl-reel/ftdi-chip; Mouser Part Number: 895-FT2232HL; Mouser Price/Stock: https://www.mouser.co.uk/ProductDetail/FTDI/FT2232HL-REEL?qs=D1%2FPMqvA100v7FHcEx164g%3D%3D; Package / Case: QFP50
footprint QFP50P1200X1200X160-64N
pins: 1 GND_1, 2 OSCI, 3 OSCO, 4 VPHY, 5 GND_2, 6 REF, 7 DM, 8 DP, 9 VPLL, 10 AGND, 11 GND_3, 12 VCORE_1, 13 TEST, 14 RESET#, 15 GND_4, 16 ADBUS0, 17 ADBUS1, 18 ADBUS2, 19 ADBUS3, 20 VCCIO_1, 21 ADBUS4, 22 ADBUS5, 23 ADBUS6, 24 ADBUS7, 25 GND_5, 26 ACBUS0, 27 ACBUS1, 28 ACBUS2, 29 ACBUS3, 30 ACBUS4, 31 VCCIO_2, 32 ACBUS5, 33 ACBUS6, 34 ACBUS7, 35 GND_6, 36 SUSPEND__#, 37 VCORE_2, 38 BDBUS0, 39 BDBUS1, 40 BDBUS2, 41 BDBUS3, 42 VCCIO_3, 43 BDBUS4, 44 BDBUS5, 45 BDBUS6, 46 BDBUS7, 47 GND_7, 48 BCBUS0, 49 VREGOUT, 50 VREGIN, 51 GND_8, 52 BCBUS1, 53 BCBUS2, 54 BCBUS3, 55 BCBUS4, 56 VCCIO_4, 57 BCBUS5, 58 BCBUS6, 59 BCBUS7, 60 PWREN#, 61 EEDATA, 62 EECLK, 63 EECS, 64 VCORE_3

## Header 6
designator J?
Header, 6-Pin; LatestRevisionDate: 17-Jul-2002; LatestRevisionNote: Re-released for DXP Platform.; Publisher: Altium Limited
footprint HDR1X6 (Connector; Header; 6 Position)
signal-integrity model Connector
pins: 1, 2, 3, 4, 5, 6

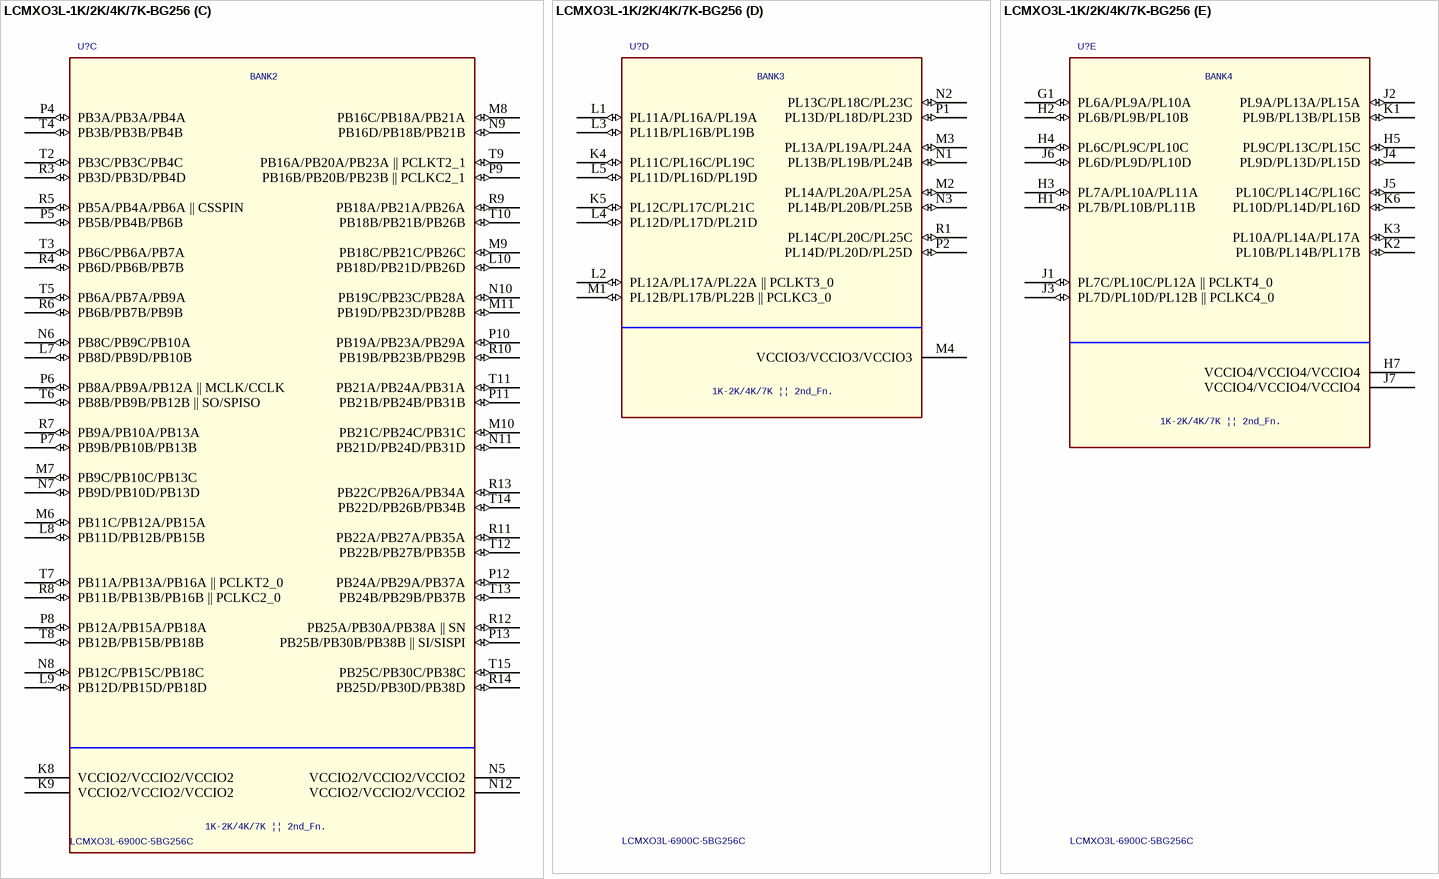
[diagram p2: symbol LCMXO3L-1K/2K/4K/7K-BG256]

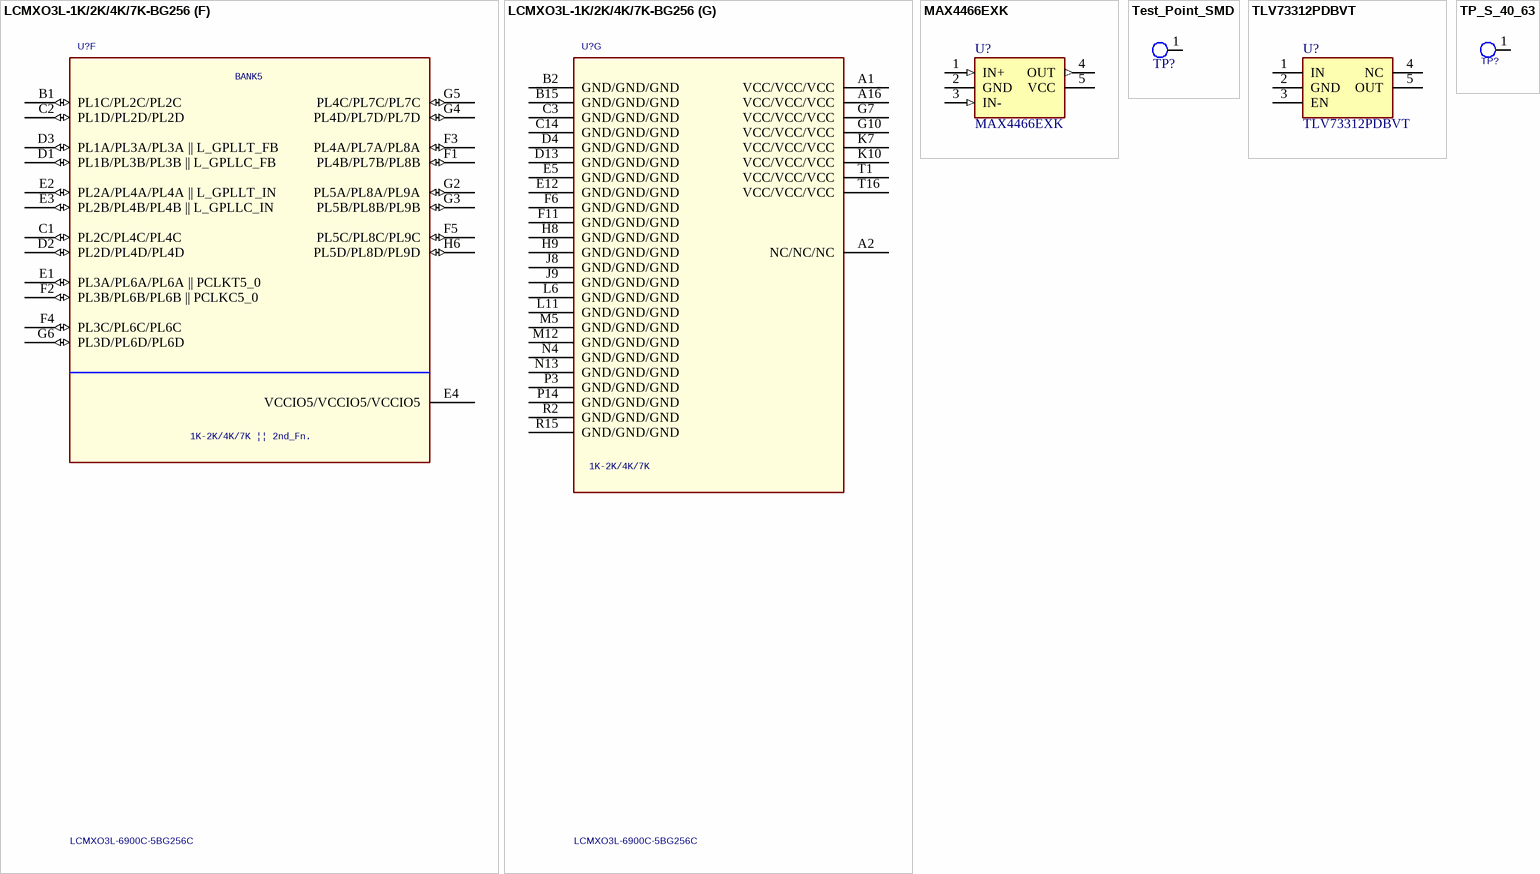
[diagram p3: symbols LCMXO3L-1K/2K/4K/7K-BG256 to TP_S_40_63]

## LCMXO3L-1K/2K/4K/7K-BG256
designator U?, comment LCMXO3L-6900C-5BG256C
IC FPGA 6864LUTS 256BGA; Manufacturer: Lattice semi; SPLIT_INST: TRUE; SWAP_INFO: (S1+S2+S3+S4+S5+S6+S7); Manufacturer Part Number: LCMXO3L-6900C-5BG256C; Digikey P/N: 220-1886-ND
footprint BGA256C80P16X16_1400X1400X170
part A pins: A3 PT11C/PT12A*/PT12A* (io), A4 PT10A*/PT10A*/PT10A* (io), A5 PT11A*/PT11A*/PT11A* (io), A6 PT12D/PT13D/PT14D || TDI (io), A7 PT16C/PT15C/PT17C || TCK (io), A8 PT17B*/PT18B*/PT18B* || PCLKC0_1 (io), A9 PT18C/PT20C/PT22C || SCL/PCLKT0_0 (io), A10 PT19B*/PT21B*/PT25B* (io), A11 PT21A*/PT24A*/PT28A* (io), A12 PT22B*/PT25B*/PT33B* (io), A13 PT24C/PT28C/PT36C || INITN (io), A14 PT22D/PT26B*/PT34B* (io), A15 PT24B*/PT28B*/PT36B* (io), B3 PT9C/PT9C/PT9C (io), B4 PT11D/PT12B*/PT12B* (io), B5 PT9B*/PT9B*/PT9B* (io), B6 PT11B*/PT11B*/PT11B* (io), B7 PT13A*/PT14A*/PT15A* (io), B8 PT16D/PT15D/PT17D || TMS (io), B9 PT19A*/PT21A*/PT25A* (io), B10 PT20D/PT23D/PT27D || PROGRAMN (io), B11 PT22A*/PT25A*/PT33A* (io), B12 PT23B*/PT27B*/PT35B* (io), B13 PT22C/PT26A*/PT34A* (io), B14 PT24A*/PT28A*/PT36A* (io), C4 PT9A*/PT9A*/PT9A* (io), C5 PT10B*/PT10B*/PT10B* (io), C6 PT12C/PT13C/PT14C || TDO (io), C7 PT13B*/PT14B*/PT15B* (io), C8 PT17A*/PT18A*/PT18A* || PCLKT0_1 (io), C9 PT18D/PT20D/PT22D || SDA/PCLKC0_0 (io), C10 PT20C/PT23C/PT27C || JTAGENB (io), C11 PT21B*/PT24B*/PT28B* (io), C12 PT23A*/PT27A*/PT35A* (io), C13 PT24D/PT28D/PT36D || DONE (io), D5 VCCIO0/VCCIO0/VCCIO0 (power), D6 PT12A*/PT13A*/PT14A* (io), D7 PT13D/PT14D/PT16B* (io), D8 PT17C/PT19A*/PT21A* (io), D9 PT18B*/PT20B*/PT22B* (io), D10 PT20A*/PT23A*/PT27A* (io), D11 PT21D/PT24D/PT32B* (io), D12 VCCIO0/VCCIO0/VCCIO0 (power), E6 PT13C/PT14C/PT16A* (io), E7 PT12B*/PT13B*/PT14B* (io), E8 PT16B*/PT15B*/PT17B* (io), E9 PT17D/PT19B*/PT21B* (io), E10 PT20B*/PT23B*/PT27B* (io), E11 PT19D/PT22B*/PT26B* (io), F7 PT16A*/PT15A*/PT17A* (io), F8 PT18A*/PT20A*/PT22A* (io), F9 PT19C/PT22A*/PT26A* (io), F10 PT21C/PT24C/PT32A* (io), G8 VCCIO0/VCCIO0/VCCIO0 (power), G9 VCCIO0/VCCIO0/VCCIO0 (power)
part B pins: B16 PR1D/PR2D/PR2D (io), C15 PR1C/PR2C/PR2C (io), C16 PR2C/PR4C/PR4C (io), D14 PR1A/PR2A/PR2A || R_GPLLT_FB** (io), D15 PR2D/PR4D/PR4D (io), D16 PR2A/PR3A/PR3A || R_GPLLT_IN** (io), E13 VCCIO1/VCCIO1/VCCIO1 (power), E14 PR2B/PR3B/PR3B || R_GPLLC_IN** (io), E15 PR1B/PR2B/PR2B || R_GPLLC_FB** (io), E16 PR3A/PR5A/PR5A (io), F12 PR4C/PR6C/PR7C (io), F13 PR3C/PR5C/PR6C (io), F14 PR4A/PR6A/PR7A (io), F15 PR3B/PR5B/PR5B (io), F16 PR4B/PR6B/PR7B (io), G11 PR5C/PR8C/PR10C (io), G12 PR3D/PR5D/PR6D (io), G13 PR4D/PR6D/PR7D (io), G14 PR5B/PR8B/PR9B (io), G15 PR5A/PR8A/PR9A (io), G16 PR6A/PR9A/PR11A DQS0 (io), H10 VCCIO1/VCCIO1/VCCIO1 (power), H11 PR9C/PR13C/PR16C (io), H12 PR5D/PR8D/PR10D (io), H13 PR6C/PR9C/PR11C (io), H14 PR7A/PR10A/PR12A || PCLKT1_0 (io), H15 PR6B/PR9B/PR11B DQS0N (io), H16 PR7B/PR10B/PR12B || PCLKC1_0 (io), J10 VCCIO1/VCCIO1/VCCIO1 (power), J11 PR10C/PR14C/PR17C (io), J12 PR6D/PR9D/PR11D (io), J13 PR9D/PR13D/PR16D (io), J14 PR7D/PR10D/PR15B (io), J15 PR9A/PR13A/PR16A DQS1 (io), J16 PR7C/PR10C/PR15A (io), K11 PR12C/PR16C/PR21C (io), K12 PR11D/PR15D/PR19D (io), K13 PR11C/PR15C/PR19C (io), K14 PR10A/PR14A/PR17A (io), K15 PR10B/PR14B/PR17B (io), K16 PR9B/PR13B/PR16B DQS1N (io), L12 PR10D/PR14D/PR17D (io), L13 PR12D/PR16D/PR21D (io), L14 PR11B/PR15B/PR18B (io), L15 PR12A/PR16A/PR21A (io), L16 PR11A/PR15A/PR18A (io), M13 VCCIO1/VCCIO1/VCCIO1 (power), M14 PR13A/PR18A/PR23A (io), M15 PR13B/PR18B/PR23B (io), M16 PR12B/PR16B/PR21B (io), N14 PR14B/PR19B/PR24B (io), N15 PR13C/PR18C/PR23C (io), N16 PR14A/PR19A/PR24A (io), P15 PR14C/PR20C/PR25C (io), P16 PR13D/PR18D/PR23D (io), R16 PR14D/PR20D/PR25D (io)
part C pins: K8 VCCIO2/VCCIO2/VCCIO2 (power), K9 VCCIO2/VCCIO2/VCCIO2 (power), L7 PB8D/PB9D/PB10B (io), L8 PB11D/PB12B/PB15B (io), L9 PB12D/PB15D/PB18D (io), L10 PB18D/PB21D/PB26D (io), M6 PB11C/PB12A/PB15A (io), M7 PB9C/PB10C/PB13C (io), M8 PB16C/PB18A/PB21A (io), M9 PB18C/PB21C/PB26C (io), M10 PB21C/PB24C/PB31C (io), M11 PB19D/PB23D/PB28B (io), N5 VCCIO2/VCCIO2/VCCIO2 (power), N6 PB8C/PB9C/PB10A (io), N7 PB9D/PB10D/PB13D (io), N8 PB12C/PB15C/PB18C (io), N9 PB16D/PB18B/PB21B (io), N10 PB19C/PB23C/PB28A (io), N11 PB21D/PB24D/PB31D (io), N12 VCCIO2/VCCIO2/VCCIO2 (power), P4 PB3A/PB3A/PB4A (io), P5 PB5B/PB4B/PB6B (io), P6 PB8A/PB9A/PB12A || MCLK/CCLK (io), P7 PB9B/PB10B/PB13B (io), P8 PB12A/PB15A/PB18A (io), P9 PB16B/PB20B/PB23B || PCLKC2_1 (io), P10 PB19A/PB23A/PB29A (io), P11 PB21B/PB24B/PB31B (io), P12 PB24A/PB29A/PB37A (io), P13 PB25B/PB30B/PB38B || SI/SISPI (io), R3 PB3D/PB3D/PB4D (io), R4 PB6D/PB6B/PB7B (io), R5 PB5A/PB4A/PB6A || CSSPIN (io), R6 PB6B/PB7B/PB9B (io), R7 PB9A/PB10A/PB13A (io), R8 PB11B/PB13B/PB16B || PCLKC2_0 (io), R9 PB18A/PB21A/PB26A (io), R10 PB19B/PB23B/PB29B (io), R11 PB22A/PB27A/PB35A (io), R12 PB25A/PB30A/PB38A || SN (io), R13 PB22C/PB26A/PB34A (io), R14 PB25D/PB30D/PB38D (io), T2 PB3C/PB3C/PB4C (io), T3 PB6C/PB6A/PB7A (io), T4 PB3B/PB3B/PB4B (io), T5 PB6A/PB7A/PB9A (io), T6 PB8B/PB9B/PB12B || SO/SPISO (io), T7 PB11A/PB13A/PB16A || PCLKT2_0 (io), T8 PB12B/PB15B/PB18B (io), T9 PB16A/PB20A/PB23A || PCLKT2_1 (io), T10 PB18B/PB21B/PB26B (io), T11 PB21A/PB24A/PB31A (io), T12 PB22B/PB27B/PB35B (io), T13 PB24B/PB29B/PB37B (io), T14 PB22D/PB26B/PB34B (io), T15 PB25C/PB30C/PB38C (io)
part D pins: K4 PL11C/PL16C/PL19C (io), K5 PL12C/PL17C/PL21C (io), L1 PL11A/PL16A/PL19A (io), L2 PL12A/PL17A/PL22A || PCLKT3_0 (io), L3 PL11B/PL16B/PL19B (io), L4 PL12D/PL17D/PL21D (io), L5 PL11D/PL16D/PL19D (io), M1 PL12B/PL17B/PL22B || PCLKC3_0 (io), M2 PL14A/PL20A/PL25A (io), M3 PL13A/PL19A/PL24A (io), M4 VCCIO3/VCCIO3/VCCIO3 (power), N1 PL13B/PL19B/PL24B (io), N2 PL13C/PL18C/PL23C (io), N3 PL14B/PL20B/PL25B (io), P1 PL13D/PL18D/PL23D (io), P2 PL14D/PL20D/PL25D (io), R1 PL14C/PL20C/PL25C (io)
part E pins: G1 PL6A/PL9A/PL10A (io), H1 PL7B/PL10B/PL11B (io), H2 PL6B/PL9B/PL10B (io), H3 PL7A/PL10A/PL11A (io), H4 PL6C/PL9C/PL10C (io), H5 PL9C/PL13C/PL15C (io), H7 VCCIO4/VCCIO4/VCCIO4 (power), J1 PL7C/PL10C/PL12A || PCLKT4_0 (io), J2 PL9A/PL13A/PL15A (io), J3 PL7D/PL10D/PL12B || PCLKC4_0 (io), J4 PL9D/PL13D/PL15D (io), J5 PL10C/PL14C/PL16C (io), J6 PL6D/PL9D/PL10D (io), J7 VCCIO4/VCCIO4/VCCIO4 (power), K1 PL9B/PL13B/PL15B (io), K2 PL10B/PL14B/PL17B (io), K3 PL10A/PL14A/PL17A (io), K6 PL10D/PL14D/PL16D (io)
part F pins: B1 PL1C/PL2C/PL2C (io), C1 PL2C/PL4C/PL4C (io), C2 PL1D/PL2D/PL2D (io), D1 PL1B/PL3B/PL3B || L_GPLLC_FB (io), D2 PL2D/PL4D/PL4D (io), D3 PL1A/PL3A/PL3A || L_GPLLT_FB (io), E1 PL3A/PL6A/PL6A || PCLKT5_0 (io), E2 PL2A/PL4A/PL4A || L_GPLLT_IN (io), E3 PL2B/PL4B/PL4B || L_GPLLC_IN (io), E4 VCCIO5/VCCIO5/VCCIO5 (power), F1 PL4B/PL7B/PL8B (io), F2 PL3B/PL6B/PL6B || PCLKC5_0 (io), F3 PL4A/PL7A/PL8A (io), F4 PL3C/PL6C/PL6C (io), F5 PL5C/PL8C/PL9C (io), G2 PL5A/PL8A/PL9A (io), G3 PL5B/PL8B/PL9B (io), G4 PL4D/PL7D/PL7D (io), G5 PL4C/PL7C/PL7C (io), G6 PL3D/PL6D/PL6D (io), H6 PL5D/PL8D/PL9D (io)
part G pins: A1 VCC/VCC/VCC (power), A2 NC/NC/NC, A16 VCC/VCC/VCC (power), B2 GND/GND/GND (power), B15 GND/GND/GND (power), C3 GND/GND/GND (power), C14 GND/GND/GND (power), D4 GND/GND/GND (power), D13 GND/GND/GND (power), E5 GND/GND/GND (power), E12 GND/GND/GND (power), F6 GND/GND/GND (power), F11 GND/GND/GND (power), G7 VCC/VCC/VCC (power), G10 VCC/VCC/VCC (power), H8 GND/GND/GND (power), H9 GND/GND/GND (power), J8 GND/GND/GND (power), J9 GND/GND/GND (power), K7 VCC/VCC/VCC (power), K10 VCC/VCC/VCC (power), L6 GND/GND/GND (power), L11 GND/GND/GND (power), M5 GND/GND/GND (power), M12 GND/GND/GND (power), N4 GND/GND/GND (power), N13 GND/GND/GND (power), P3 GND/GND/GND (power), P14 GND/GND/GND (power), R2 GND/GND/GND (power), R15 GND/GND/GND (power), T1 VCC/VCC/VCC (power), T16 VCC/VCC/VCC (power)
part A text: BANK0; * = TRUE LVDS Output; 1K-2K/4K/7K || 2nd_Fn.
part B text: BANK1; DQ0; DQ1; ** = 2nd_Fn. applicable for 4K and 7K devices only.; 1K-2K/4K/7K || 2nd_Fn.
part C text: BANK2; 1K-2K/4K/7K || 2nd_Fn.
part D text: BANK3; 1K-2K/4K/7K || 2nd_Fn.
part E text: BANK4; 1K-2K/4K/7K || 2nd_Fn.
part F text: BANK5; 1K-2K/4K/7K || 2nd_Fn.
part G text: 1K-2K/4K/7K

## MAX4466EXK
designator U?
Integrated Circuit; Manufacturer_Name: Maxim Integrated; Datasheet Link: https://datasheets.maximintegrated.com/en/ds/MAX4465-MAX4469.pdf; Height: 1.45mm; Manufacturer_Part_Number: MAX4466EXK; Arrow Part Number: MAX4466EXK
footprint SOT95P280X145-5N
pins: 1 IN+ (in), 2 GND (power), 3 IN- (in), 4 OUT (out), 5 VCC (power)

## Test_Point_SMD
designator TP?  (value not drawn)
footprint Test_Point_SMD (SMD Test Point)
pins: 1 TP

## TLV73312PDBVT
designator U?
Integrated Circuit; Manufacturer_Name: Texas Instruments; Datasheet Link: http://www.ti.com/lit/gpn/TLV733P; Height: 1.45mm; Manufacturer_Part_Number: TLV73312PDBVT; Arrow Part Number: TLV73312PDBVT; Arrow Price/Stock: https://www.arrow.com/en/products/tlv73312pdbvt/texas-instruments; Mouser Part Number: 595-TLV73312PDBVT; Mouser Price/Stock: https://www.mouser.co.uk/ProductDetail/Texas-Instruments/TLV73312PDBVT?qs=ifm8N2KdrcbA2G38xADqCw%3D%3D
footprint SOT95P280X145-5N
pins: 1 IN, 2 GND, 3 EN, 4 NC, 5 OUT

## TP_S_40_63
designator TP?, comment tp_s_40_63  (value not drawn)
Square test point, 40mil inner diameter, 63mil outer diameter; Assy: DNI; Class: IO
footprint tp_s_40_63
pins: 1 TP